# Altium footprint library M24C02-WMN6TP.PcbLib: 3 footprints
Each footprint in its own frame and in the unit in brackets; x right, y up, seen from the top. Pads: shape width x height; smd on the part's side, far side on the other; paste and mask are expansions set on the pad; w line width, h text height; cw(c..) or ccw(c..) is an arc to the next point about the centre after c.
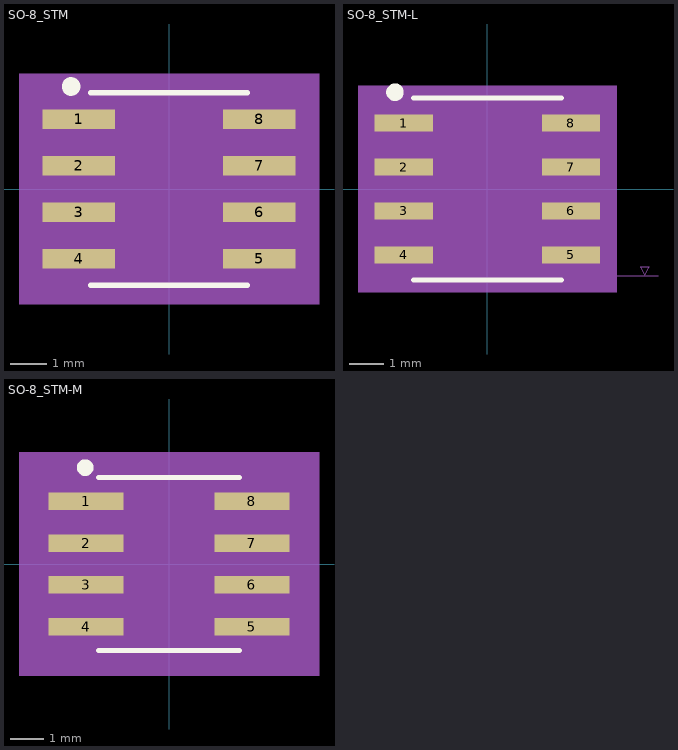
[diagram p0: the footprints below, top view; thin cyan lines are the x and y axes]

## SO-8_STM [mil]
pads (8):
  rect 78x21 smd paste+0 mask+0: 1(-97,75) 2(-97,25) 3(-97,-25) 4(-97,-75) 5(97,-75) 6(97,-25) 7(97,25) 8(97,75)
Top Overlay:
  circle w10: c-105,110 r5
  lines w6: -84,-103.5 84,-103.5 ; -84,103.5 84,103.5
Mechanical 5:
  region: 161,-123.5 -161,-123.5 -161,123.5 161,123.5
Mechanical 13:
  lines w0: -12,98.5 ccw(c0,98.5) 12,98.5
  lines w1: -122,-84.5 -122,-65.5 -79,-65.5 -79,-84.5 -122,-84.5 ; -122,-34.5 -122,-15.5 -79,-15.5 -79,-34.5 -122,-34.5 ; -122,15.5 -122,34.5 -79,34.5 -79,15.5 -122,15.5 ; -122,65.5 -122,84.5 -79,84.5 -79,65.5 -122,65.5 ; -79,-98.5 79,-98.5 79,98.5 -79,98.5 -79,-98.5 ; 79,-84.5 79,-65.5 122,-65.5 122,-84.5 79,-84.5 ; 79,-34.5 79,-15.5 122,-15.5 122,-34.5 79,-34.5 ; 79,15.5 79,34.5 122,34.5 122,15.5 79,15.5 ; 79,65.5 79,84.5 122,84.5 122,65.5 79,65.5
  text "*" at -76.5,45.5 h50
Mechanical 15:
  region: -89,-95.5 -146,-95.5 -146,95.5 -89,95.5 -89,108.5 89,108.5 89,95.5 146,95.5 146,-95.5 89,-95.5 89,-108.5 -89,-108.5
  lines w6: -146,-95.5 -146,95.5 -89,95.5 -89,108.5 89,108.5 89,95.5 146,95.5 146,-95.5 89,-95.5 89,-108.5 -89,-108.5 -89,-95.5 -146,-95.5
3D body: height 10, standoff 0, extent 0,0 10,10

## SO-8_STM-L [mil]
pads (8):
  rect 66x19 smd paste+0 mask+0: 1(-95,75) 2(-95,25) 3(-95,-25) 4(-95,-75) 5(95,-75) 6(95,-25) 7(95,25) 8(95,75)
Top Overlay:
  circle w10: c-105,110 r5
  lines w6: -84,-103.5 84,-103.5 ; -84,103.5 84,103.5
Mechanical 5:
  region: 147,-117.5 -147,-117.5 -147,117.5 147,117.5
Mechanical 7:
  lines w1: 0,-98.5 194,-98.5 ; 174,-88.5 184,-88.5 179,-98.5 174,-88.5
Mechanical 13:
  lines w0: -12,98.5 ccw(c0,98.5) 12,98.5
  lines w1: -122,-84.5 -79,-84.5 -79,-65.5 -122,-65.5 -122,-84.5 ; -122,-34.5 -79,-34.5 -79,-15.5 -122,-15.5 -122,-34.5 ; -122,15.5 -79,15.5 -79,34.5 -122,34.5 -122,15.5 ; -122,65.5 -79,65.5 -79,84.5 -122,84.5 -122,65.5 ; -79,-98.5 -79,98.5 79,98.5 79,-98.5 -79,-98.5 ; 79,-84.5 122,-84.5 122,-65.5 79,-65.5 79,-84.5 ; 79,-34.5 122,-34.5 122,-15.5 79,-15.5 79,-34.5 ; 79,15.5 122,15.5 122,34.5 79,34.5 79,15.5 ; 79,65.5 122,65.5 122,84.5 79,84.5 79,65.5
  text "*" at -76.5,45.5 h50
Mechanical 15:
  region: -83,-88.5 -132,-88.5 -132,88.5 -83,88.5 -83,102.5 83,102.5 83,88.5 132,88.5 132,-88.5 83,-88.5 83,-102.5 -83,-102.5
  lines w6: -132,-88.5 -83,-88.5 -83,-102.5 83,-102.5 83,-88.5 132,-88.5 132,88.5 83,88.5 83,102.5 -83,102.5 -83,88.5 -132,88.5 -132,-88.5
3D body: height 10, standoff 0, extent 0,0 10,10

## SO-8_STM-M [mil]
pads (8):
  rect 90x21 smd paste+0 mask+0: 1(-99,75) 2(-99,25) 3(-99,-25) 4(-99,-75) 5(99,-75) 6(99,-25) 7(99,25) 8(99,75)
Top Overlay:
  circle w10: c-100,115 r5
  lines w6: -84,-103.5 84,-103.5 ; -84,103.5 84,103.5
Mechanical 5:
  region: 179,-133.5 -179,-133.5 -179,133.5 179,133.5
Mechanical 13:
  lines w0: -12,98.5 ccw(c0,98.5) 12,98.5
  lines w1: -122,-84.5 -122,-65.5 -79,-65.5 -79,-84.5 -122,-84.5 ; -122,-34.5 -122,-15.5 -79,-15.5 -79,-34.5 -122,-34.5 ; -122,15.5 -122,34.5 -79,34.5 -79,15.5 -122,15.5 ; -122,65.5 -122,84.5 -79,84.5 -79,65.5 -122,65.5 ; -79,-98.5 79,-98.5 79,98.5 -79,98.5 -79,-98.5 ; 79,-84.5 79,-65.5 122,-65.5 122,-84.5 79,-84.5 ; 79,-34.5 79,-15.5 122,-15.5 122,-34.5 79,-34.5 ; 79,15.5 79,34.5 122,34.5 122,15.5 79,15.5 ; 79,65.5 79,84.5 122,84.5 122,65.5 79,65.5
  text "*" at -76.5,45.5 h50
Mechanical 15:
  region: -99,-105.5 -164,-105.5 -164,105.5 -99,105.5 -99,118.5 99,118.5 99,105.5 164,105.5 164,-105.5 99,-105.5 99,-118.5 -99,-118.5
  lines w6: -164,-105.5 -164,105.5 -99,105.5 -99,118.5 99,118.5 99,105.5 164,105.5 164,-105.5 99,-105.5 99,-118.5 -99,-118.5 -99,-105.5 -164,-105.5
3D body: height 10, standoff 0, extent 0,0 10,10